# EAGLE library part M5STACK_ATOM (library m5stack_atom)
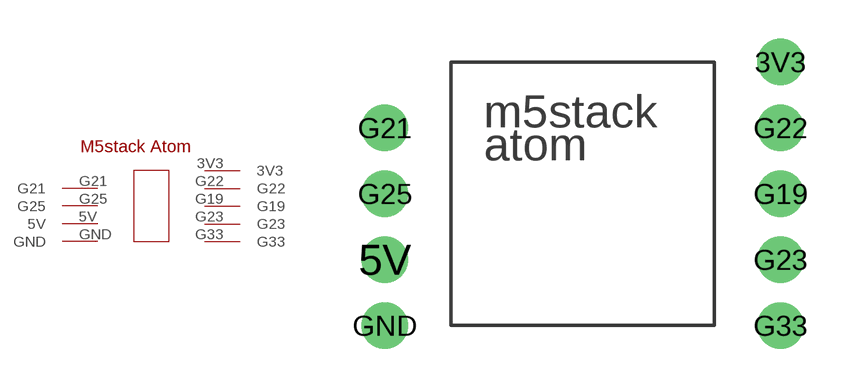
[diagram p0: symbol with the pads of M5STACK_ATOM; footprint M5STACK_ATOM]

Designator prefix -

## M5STACK_ATOM  [M5STACK_ATOM]
3V3  3V3
5V  5V
G19  G19
G21  G21
G22  G22
G23  G23
G25  G25
G33  G33
GND  GND

## Footprint M5STACK_ATOM (pad centres in mm)
drill 0.9 pad 1.778: 3V3 15.24,10.16; 5V 0,2.54; G19 15.24,5.08; G21 0,7.62; G22 15.24,7.62; G23 15.24,2.54; G25 0,5.08; G33 15.24,0; GND 0,0